# EAGLE library part ATA6561 (library SparkFun-IC-Comms)
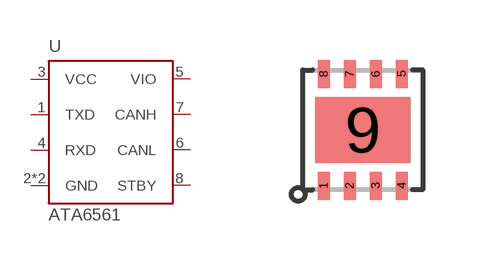
[diagram p15: symbol with the pads of DFN8; footprint DFN8]

Designator prefix U

## ATA6561 (PROD_ID: IC-13837)  [DFN8]
1  TXD
2  GND
3  VCC
4  RXD
5  VIO
6  CANL
7  CANH
8  STBY
9  GND

## Footprint DFN8 (pad centres in mm)
smd 0.3 x 0.7: 1 -0.975,-1.4; 2 -0.325,-1.4; 3 0.325,-1.4; 4 0.975,-1.4; 5 0.975,1.4; 6 0.325,1.4; 7 -0.325,1.4; 8 -0.975,1.4
smd 2.38 x 1.65: 9 0,0